# Altium schematic symbol library Chronograph.SCHLIB: 24 symbols
Pins are listed as number, name and electrical type; pins without a type are passive.

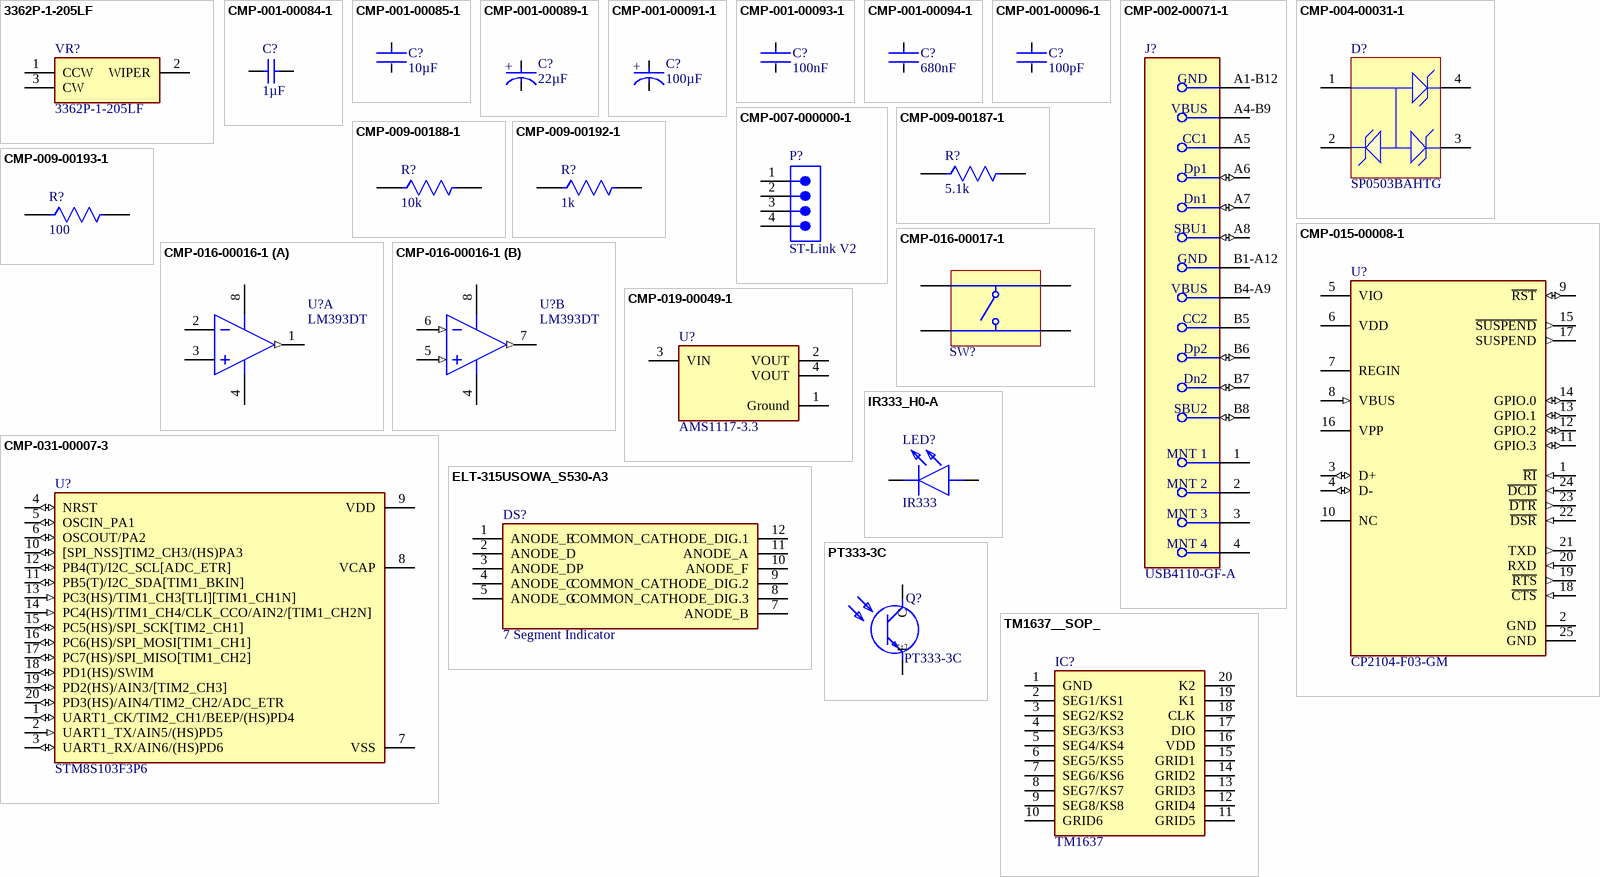
[diagram p0: symbols 3362P-1-205LF to TM1637__SOP_]

## 3362P-1-205LF
designator VR?
Variable Resistor; Manufacturer_Name: Bourns; Datasheet Link: https://www.bourns.com/docs/Product-Datasheets/3362.pdf; Height: 5.13mm; Manufacturer_Part_Number: 3362P-1-205LF; Mouser Part Number: 652-3362P-1-205LF; Mouser Price/Stock: https://www.mouser.co.uk/ProductDetail/Bourns/3362P-1-205LF?qs=nRMFw3K2t64w844%2Fcd92TA%3D%3D; Arrow Part Number: 3362P-1-205LF; Arrow Price/Stock: https://www.arrow.com/en/products/3362p-1-205lf/bourns?region=nac
footprint 3362P1205LF
pins: 1 CCW, 2 WIPER, 3 CW

## CMP-001-00084-1
designator C?, comment value 1µF  (hidden comment: 1206ZC105JAT2A)
Ceramic Capacitor, Multilayer, Ceramic, 10V, 5% +Tol, 5% -Tol, X7R, 15% TC, 1uF, Surface Mount, 1206; Manufacturer: KYOCERA AVX; Pins: 2; Mounting Technology: Surface Mount; Min Operating Temperature: -55°C; Case/Package: 1206; Voltage Rating: 10V; Max Operating Temperature: 125°C; Tolerance: 5%; Manufacturer Part Number: 1206ZC105JAT2A; Component Type: Capacitors
footprint CAPC1206(3216)130_M (Chip Capacitor, Body 3.2x1.6mm, Height 1.3mm, IPC Low Density)
pins: 1, 2
1 alternate drawing of the same symbol

## CMP-001-00085-1
designator C?, comment value 10µF  (hidden comment: GCJ31CD7YA106KE02L)
Ceramic Capacitor, Ceramic, 35V, 10% +Tol, 10% -Tol, X7T, 22/-33% TC, 10uF, Surface Mount, 1206; Manufacturer: Murata; Case/Package: 1206; Mounting Technology: Surface Mount; Min Operating Temperature: -55°C; Voltage Rating: 35V; Max Operating Temperature: 125°C; Tolerance: 10%; Manufacturer Part Number: GCJ31CD7YA106KE02L; Component Type: Capacitors
footprint FP-GCJ31C-0_4-IPC_C
pins: 1, 2

## CMP-001-00089-1
designator C?, comment value 22µF  (hidden comment: TAJA226M010RNJ)
Cap Tant Solid 22uF 10V A CASE 20%( 3.2 X 1.6 X 1.6mm) Inward L SMD 3216-18 3 Ohm 125C T/R; Manufacturer: KYOCERA AVX; Ripple Current: 63mA; Voltage Rating: 10V; Mounting Technology: Surface Mount; Case/Package: 1206; Pins: 2; Tolerance: 20%; Min Operating Temperature: -55°C; Max Operating Temperature: 125°C; Manufacturer Part Number: TAJA226M010RNJ; Component Type: Capacitors
footprint FP-TAJA-MFG
pins: 1 C, 2 A
text: +

## CMP-001-00091-1
designator C?, comment value 100µF  (hidden comment: TLJA107M006R0500)
Cap Tant Solid 100uF 6.3V A CASE 20% (3.2 X 1.6 X 1.6mm) Inward L SMD 3216-18 0.5 Ohm 125C T/R; Manufacturer: KYOCERA AVX; Ripple Current: 155mA; Mounting Technology: Surface Mount; Case/Package: 1206; Min Operating Temperature: -55°C; Max Operating Temperature: 125°C; Voltage Rating: 6.3V; Tolerance: 20%; Pins: 2; Manufacturer Part Number: TLJA107M006R0500; Component Type: Capacitors
footprint FP-TLJA-MFG
pins: 1 C, 2 A
text: +

## CMP-001-00093-1
designator C?, comment value 100nF  (hidden comment: UMK316B7104KLHT)
Ceramic Capacitor, Multilayer, Ceramic, 50V, 10% +Tol, 10% -Tol, X7R, 15% TC, 0.1uF, Surface Mount, 1206; Manufacturer: TAIYO YUDEN; Pins: 2; Max Operating Temperature: 125°C; RoHS Compliant: Yes; Case/Package: 1206; Capacitor Type: Ceramic; Min Operating Temperature: -55°C; Mounting Technology: Surface Mount; Manufacturer Part Number: UMK316B7104KLHT; Component Type: Capacitors
footprint FP-1206-L_3_2_0_15-W_1_6-IPC_B
simulation model UMK316B7104_LHT
pins: 1, 2

## CMP-001-00094-1
designator C?, comment value 680nF  (hidden comment: CC0805KKX7R6BB684)
Ceramic Capacitor, Multilayer, Ceramic, 10V, 10% +Tol, 10% -Tol, X7R, 15% TC, 0.68uF, Surface Mount, 0805; Manufacturer: Yageo Group; Case/Package: 0805; Mounting Technology: Surface Mount; Capacitor Type: Ceramic; Pins: 2; RoHS Compliant: Yes; Max Operating Temperature: 125°C; Min Operating Temperature: -55°C; Manufacturer Part Number: CC0805KKX7R6BB684; Component Type: Capacitors
footprint FP-CC0805-0_85-IPC_A
pins: 1, 2

## CMP-001-00096-1
designator C?, comment value 100pF  (hidden comment: 12063A101KAT2A)
Ceramic Capacitor, Multilayer, Ceramic, 25V, 10% +Tol, 10% -Tol, C0G, 30ppm/Cel TC, 0.0001uF, Surface Mount, 1206; Manufacturer: Kyocera AVX; Max Operating Temperature: 125°C; Min Operating Temperature: -55°C; Case/Package: 1206; Pins: 2; Mounting Technology: Surface Mount; RoHS Compliant: Yes; Capacitor Type: Ceramic; Manufacturer Part Number: 12063A101KAT2A; Component Type: Capacitors
footprint FP-1206-L_3_2_0_2-W_1_6_0-IPC_A
pins: 1, 2

## CMP-002-00071-1
designator J?, comment USB4110-GF-A
USB Connector, 16 Contact(s), Male, Right Angle, Surface Mount Terminal, Locking, Receptacle; Manufacturer: Global Connector Technology; Voltage Rating: 20V; Pins: 16; Gender: Receptacle; Max Operating Temperature: 85°C; Min Operating Temperature: -40°C; Manufacturer Part Number: USB4110-GF-A; Component Type: Connectors
footprint FP-USB4110-GF-A-MFG
pins: 1 MNT 1, 2 MNT 2, 3 MNT 3, 4 MNT 4, A1-B12 GND, A4-B9 VBUS (power), A5 CC1 (power), A6 Dp1 (io), A7 Dn1 (io), A8 SBU1 (io), B1-A12 GND, B4-A9 VBUS (power), B5 CC2 (power), B6 Dp2 (io), B7 Dn2 (io), B8 SBU2 (io)

## CMP-004-00031-1
designator D?, comment SP0503BAHTG
SP050xBA Series 8.5 V 30 pF Triple Uni-Directional TVS Avalanche Diode-SOT143-4; Manufacturer: Littelfuse; Mounting Technology: Surface Mount; Max Operating Temperature: 125°C; Case/Package: SOT-143; Min Operating Temperature: -40°C; Pins: 4; Manufacturer Part Number: SP0503BAHTG; Component Type: Diodes
footprint LFUS-SOT143-4_V (SOT143, 4-Leads, Body 3.04x1.4mm, Pitch 1.90mm)
pins: 1, 2, 3, 4

## CMP-007-000000-1
designator P?, comment ST-Link V2
NexarPartId: 31153320; Operating Supply Voltage: 250V; Contact Resistance: 20m?; Gender: Male; Connector Type: Male Pin; Number of Positions: 4; Pitch: 2.54mm; Current Rating: 3A; Mount: Through Hole; Color: Black; REACH SVHC: Unknown; Component Type: Standard; Source: Components - 25.08.25 - 11.48.SchLib; Lead Pitch: 2.54mm; Contact Plating: Gold; Design Item ID: CMP-1502-01063-3; Number of Pins: 4; Contact Material: Copper; Number of Contacts: 4; Termination: Solder; Number of Rows: 1; RoHS: Compliant; Contact Mating Length: 5.9944mm; Pin Count: 4
footprint 361300411021 (Pin Header, pitch 2.54 mm, THT, Angled, single row, 4p)
pins: 1, 2, 3, 4

## CMP-009-00187-1
designator R?, comment value 5.1k  (hidden comment: ESR18EZPF5101)
Res Thick Film 1206 5.1K Ohm 1% 0.5W(1/2W) ±100ppm/C Pad SMD T/R Automotive AEC-Q200; Manufacturer: ROHM; Voltage Rating: 200V; Min Operating Temperature: -55°C; Tolerance: 1%; Mounting Technology: Surface Mount; Max Operating Temperature: 155°C; Case/Package: 1206; Manufacturer Part Number: ESR18EZPF5101; Component Type: Resistors
footprint FP-ESR18-IPC_A
pins: 1, 2

## CMP-009-00188-1
designator R?, comment value 10k  (hidden comment: AC1206FR-1310KL)
Res Thick Film 1206 10K Ohm 1% 0.25W(1/4W) ±100ppm/°C Pad SMD T/R Automotive AEC-Q200; Manufacturer: Yageo Group; Voltage Rating: 200V; Tolerance: 1%; Mounting Technology: Surface Mount; Case/Package: 1206; Max Operating Temperature: 155°C; Min Operating Temperature: -55°C; Manufacturer Part Number: AC1206FR-1310KL; Component Type: Resistors
footprint FP-AC1206-IPC_A
pins: 1, 2

## CMP-009-00192-1
designator R?, comment value 1k  (hidden comment: RP73D2B1K0BTG)
Res Thin Film 1206 1K Ohm 0.1% 0.25W(1/4W) ±15ppm/C Pad SMD Cut Tape Medical; Manufacturer: TE Connectivity / Holsworthy; Voltage Rating: 25V; Case/Package: 1206; Mounting Technology: Surface Mount; Min Operating Temperature: -55°C; Max Operating Temperature: 155°C; Pins: 2; Tolerance: 0.1%; Manufacturer Part Number: RP73D2B1K0BTG; Component Type: Resistors
footprint FP-RP732B-MFG
pins: 1, 2

## CMP-009-00193-1
designator R?, comment value 100  (hidden comment: RC3216J101CS)
Res Thick Film 1206 100 Ohm 5% 1/4W ±100ppm/°C Molded SMD T/R; Manufacturer: Samsung Electro-Mechanics; Voltage Rating: 200V; Tolerance: 5%; Min Operating Temperature: -55°C; Max Operating Temperature: 155°C; Case/Package: 1206; Mounting Technology: Surface Mount; Manufacturer Part Number: RC3216J101CS; Component Type: Resistors
footprint FP-RC3216-IPC_B
pins: 1, 2

## CMP-015-00008-1
designator U?, comment CP2104-F03-GM
USB-to-UART 1-CH 576byte FIFO 3.3V Automotive 24-Pin QFN EP Tube; Manufacturer: Silicon Lab; Max Supply Voltage: 3.6V; Min Supply Voltage: 3V; Min Operating Temperature: -40°C; Max Operating Temperature: 85°C; Case/Package: QFN; Pins: 24; Manufacturer Part Number: CP2104-F03-GM; Component Type: Interface
footprint FP-CP2104-F03-GM-MFG
pins: 1 ~{RI} (in), 2 GND (power), 3 D+ (io), 4 D- (io), 5 VIO (power), 6 VDD (power), 7 REGIN (power), 8 VBUS (in), 9 ~{RST} (io), 10 NC, 11 GPIO.3 (io), 12 GPIO.2 (io), 13 GPIO.1 (io), 14 GPIO.0 (io), 15 ~{SUSPEND} (out), 16 VPP, 17 SUSPEND (out), 18 ~{CTS} (in), 19 ~{RTS} (out), 20 RXD (in), 21 TXD (out), 22 ~{DSR} (in), 23 ~{DTR} (out), 24 ~{DCD} (in), 25 GND (power)

## CMP-016-00016-1
designator U?, comment LM393DT
Comparator, 2 Func, 9000uV Offset-Max, 1300ns Response Time, BIPolar, PDSO8; Manufacturer: STMicroelectronics; Nominal Supply Voltage: 5V; Min Operating Temperature: 0°C; Case/Package: SOP; Max Operating Temperature: 70°C; RoHS Compliant: Yes; Pins: 8; Manufacturer Part Number: LM393DT; Component Type: Logic
footprint STM-SO-8_D_L (SOIC, 8-Leads, Body 5x4mm, Pitch 1.27mm, IPC High Density)
footprint STM-SO-8_D_M (SOIC, 8-Leads, Body 5x4mm, Pitch 1.27mm, IPC Low Density)
footprint STM-SO-8_D_N (SOIC, 8-Leads, Body 5x4mm, Pitch 1.27mm, IPC Medium Density)
pins on every part: 4 VCC- (power), 8 VCC+ (power)
part A pins: 1 OUT1 (out), 2 IN1-, 3 IN1+
part B pins: 5 IN2+ (in), 6 IN2- (in), 7 OUT2 (out)

## CMP-016-00017-1
designator SW?, comment FSM4JSMATR  (value not drawn)
Keypad Switch, 1 Switches, SPST, Momentary-tactile, 0.05A, 24VDC, 2.06N, Solder Terminal, Surface Mount-straight; Manufacturer: TE Connectivity Alcoswitch; Max Operating Temperature: 85°C; Mounting Technology: Surface Mount; Min Operating Temperature: -20°C; RoHS Compliant: Yes; Manufacturer Part Number: FSM4JSMATR; Component Type: Logic
footprint TECO-FSM4JSMATR_V (SMD, 4-Leads, Body 6x6mm, Pitch 4.5mm)
pins: 1, 2, 3, 4

## CMP-019-00049-1
designator U?, comment AMS1117-3.3
Fixed Positive LDO Regulator, 3.3V, 1.3V Dropout, PDSO3; Manufacturer: Advanced Monolithic Systems; Pins: 3; Case/Package: SOP; RoHS Compliant: Yes; Manufacturer Part Number: AMS1117-3.3; Component Type: Power Supply
footprint FP-AMS1117-IPC_B
footprint FP-AMS1117-IPC_C
footprint FP-AMS1117-IPC_A
pins: 1 Ground (power), 2 VOUT, 3 VIN (power), 4 VOUT

## CMP-031-00007-3
designator U?, comment STM8S103F3P6
STM8 series Microcontroller IC 8-Bit 16MHz 8KB (8K x 8) FLASH 20-TSSOP; MF: STMicroelectronics; Value: *; MP: STM8S103F3P6; Check_prices: https://www.snapeda.com/parts/STM8S103F3P6/STMicroelectronics/view-part/?ref=eda; SnapEDA_Link: https://www.snapeda.com/parts/STM8S103F3P6/STMicroelectronics/view-part/?ref=snap; Design Item ID: STM8S103F3P6; Source: STM8S103F3P6.SchLib; Pins: 20; Case/Package: TSSOP-20 STMicroelectronics; Component Type: Standard; Component Type: Integrated Circuits
footprint SOP65P640X120-20N
pins: 1 UART1_CK/TIM2_CH1/BEEP/(HS)PD4 (io), 2 UART1_TX/AIN5/(HS)PD5 (in), 3 UART1_RX/AIN6/(HS)PD6 (io), 4 NRST (io), 5 OSCIN_PA1 (io), 6 OSCOUT/PA2 (io), 7 VSS (power), 8 VCAP, 9 VDD (power), 10 [SPI_NSS]TIM2_CH3/(HS)PA3 (io), 11 PB5(T)/I2C_SDA[TIM1_BKIN] (io), 12 PB4(T)/I2C_SCL[ADC_ETR] (io), 13 PC3(HS)/TIM1_CH3[TLI][TIM1_CH1N] (in), 14 PC4(HS)/TIM1_CH4/CLK_CCO/AIN2/[TIM1_CH2N] (in), 15 PC5(HS)/SPI_SCK[TIM2_CH1] (io), 16 PC6(HS)/SPI_MOSI[TIM1_CH1] (io), 17 PC7(HS)/SPI_MISO[TIM1_CH2] (io), 18 PD1(HS)/SWIM (io), 19 PD2(HS)/AIN3/[TIM2_CH3] (io), 20 PD3(HS)/AIN4/TIM2_CH2/ADC_ETR (io)

## ELT-315USOWA_S530-A3
designator DS?, comment 7 Segment Indicator
Display; Manufacturer_Name: Everlight; Manufacturer_Part_Number: ELT-315USOWA/S530-A3; Datasheet Link: https://media.digikey.com/pdf/Data%20Sheets/Everlight%20PDFs/ELT-315USOWA_S530-A3.pdf; Height: 7.45mm
footprint ELT315USOWAS530A3
pins: 1 ANODE_E, 2 ANODE_D, 3 ANODE_DP, 4 ANODE_C, 5 ANODE_G, 7 ANODE_B, 8 COMMON_CATHODE_DIG.3, 9 COMMON_CATHODE_DIG.2, 10 ANODE_F, 11 ANODE_A, 12 COMMON_CATHODE_DIG.1

## IR333_H0-A
designator LED?, comment IR333
LED; Manufacturer_Name: Everlight; Manufacturer_Part_Number: IR333/H0-A; Datasheet Link: https://datasheet.lcsc.com/lcsc/1808280419_Everlight-Elec-IR333-H0-A_C264292.pdf; Height: 10.4mm; Mouser Part Number: 638-IR333/H0-A; Mouser Price/Stock: https://www.mouser.co.uk/ProductDetail/Everlight/IR333-H0-A?qs=By6Nw2ByBD39%252BlkBkN%2FobQ%3D%3D
footprint IR333H0A
pins: 1 A, 2 K

## PT333-3C
designator Q?
Phototransistor; Manufacturer_Name: Everlight; Datasheet Link: https://datasheet.datasheetarchive.com/originals/distributors/Datasheets-3/DSA-51362.pdf; Manufacturer_Part_Number: PT333-3C; Mouser Part Number: 638-PT3333C; Mouser Price/Stock: https://www.mouser.com/Search/Refine.aspx?Keyword=638-PT3333C; Arrow Part Number: PT333-3C; Arrow Price/Stock: https://www.arrow.com/en/products/pt333-3c/everlight-electronics?region=nac
footprint PT3333C
pins: 1 E, 2 C

## TM1637__SOP_
designator IC?, comment TM1637
Integrated Circuit; Manufacturer_Name: TITAN MICRO ELECTRONICS; Manufacturer_Part_Number: TM1637 (SOP); Datasheet Link: https://www.mcielectronics.cl/website_MCI/static/documents/Datasheet_TM1637.pdf; Height: 2.8mm
footprint SOIC127P1045X280-20N
pins: 1 GND, 2 SEG1/KS1, 3 SEG2/KS2, 4 SEG3/KS3, 5 SEG4/KS4, 6 SEG5/KS5, 7 SEG6/KS6, 8 SEG7/KS7, 9 SEG8/KS8, 10 GRID6, 11 GRID5, 12 GRID4, 13 GRID3, 14 GRID2, 15 GRID1, 16 VDD, 17 DIO, 18 CLK, 19 K1, 20 K2